# Altium footprint library TQFPW-64.PcbLib: 1 footprints
Each footprint in its own frame and in the unit in brackets; x right, y up, seen from the top. Pads: shape width x height; smd on the part's side, far side on the other; paste and mask are expansions set on the pad; w line width, h text height; cw(c..) or ccw(c..) is an arc to the next point about the centre after c.
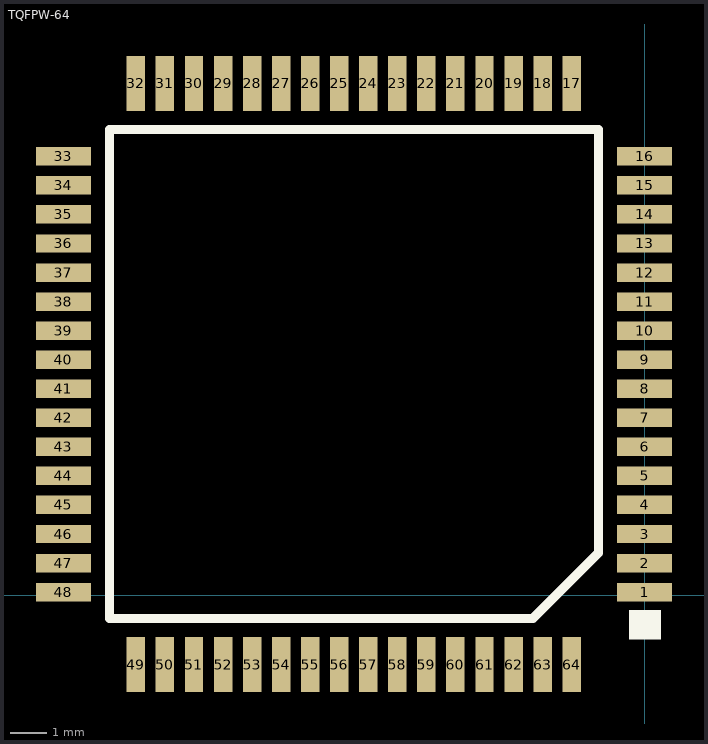
[diagram p0: the footprint, top view; thin cyan lines are the x and y axes]

## TQFPW-64 [mil]
height 110
pads (64):
  rect 60x20 smd: 1(0,3.5) 2(0,35) 3(0,66.5) 4(0,98) 5(0,129.5) 6(0,161) 7(0,192.5) 8(0,224) 9(0,255.5) 10(0,287) 11(0,318.5) 12(0,350) 13(0,381.5) 14(0,413) 15(0,444.5) 16(0,476) 33(-630,476) 34(-630,444.5) 35(-630,413) 36(-630,381.5) 37(-630,350) 38(-630,318.5) 39(-630,287) 40(-630,255.5) 41(-630,224) 42(-630,192.5) 43(-630,161) 44(-630,129.5) 45(-630,98) 46(-630,66.5) 47(-630,35) 48(-630,3.5)
  rect 20x60 smd: 17(-79,555) 18(-110.5,555) 19(-142,555) 20(-173.5,555) 21(-205,555) 22(-236.5,555) 23(-268,555) 24(-299.5,555) 25(-331,555) 26(-362.5,555) 27(-394,555) 28(-425.5,555) 29(-457,555) 30(-488.5,555) 31(-520,555) 32(-551.5,555) 49(-551.5,-75) 50(-520,-75) 51(-488.5,-75) 52(-457,-75) 53(-425.5,-75) 54(-394,-75) 55(-362.5,-75) 56(-331,-75) 57(-299.5,-75) 58(-268,-75) 59(-236.5,-75) 60(-205,-75) 61(-173.5,-75) 62(-142,-75) 63(-110.5,-75) 64(-79,-75)
TopOverlay:
  rectangle: -17,-48 18,-16
  lines w10: -50,67 -50,46 ; -50,46 -50,505 -580,505 -580,-25 -121,-25 -50,46